# Altium schematic symbol library QUTMS_TransistorLibrary.SchLib: 2 symbols
Pins are listed as number, name and electrical type; pins without a type are passive.

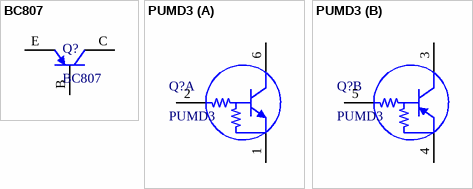
[diagram p0: symbols BC807 to PUMD3]

## BC807
designator Q?
BJT, SMD, PNP, 45V, 500mA, 100MHz, 300mW, SOT-23-3; ComponentLink1Description: Datasheet; ComponentLink1URL: https://www.onsemi.cn/PowerSolutions/document/BC807-16LT1-D.PDF; ComponentLink2Description: Digikey; ComponentLink2URL: https://www.digikey.com.au/product-detail/en/on-semiconductor/BC807-25LT1G/BC807-25LT1GOSCT-ND/917826
footprint SOT23-3 (SOT23, 3-Leads, Body 2.90x2.45mm, Pitch 0.95mm, IPC Medium Density)
pins: B, C, E

## PUMD3
designator Q?
Pre-Biased Bipolar Transistor (BJT) 1 NPN, 1 PNP - Pre-Biased (Dual) 50V 100mA 300mW Surface Mount 6-TSSOP; ComponentLink1Description: Datasheet; ComponentLink1URL: https://assets.nexperia.com/documents/data-sheet/PEMD3_PIMD3_PUMD3.pdf; ComponentLink2Description: Digikey; ComponentLink2URL: https://www.digikey.com.au/product-detail/en/nexperia-usa-inc/PUMD3-165/1727-1984-1-ND/5221957
footprint TSSOP6 (TSOP, 6-Leads, Body 2.00x1.25mm, Pitch 0.65mm, IPC Medium Density)
part A pins: 1 E1, 2 B1, 6 C1
part B pins: 3 C2, 4 E2, 5 B2